# Altium schematic symbol library Schlib2.SchLib: 49 symbols
Pins are listed as number, name and electrical type; pins without a type are passive.

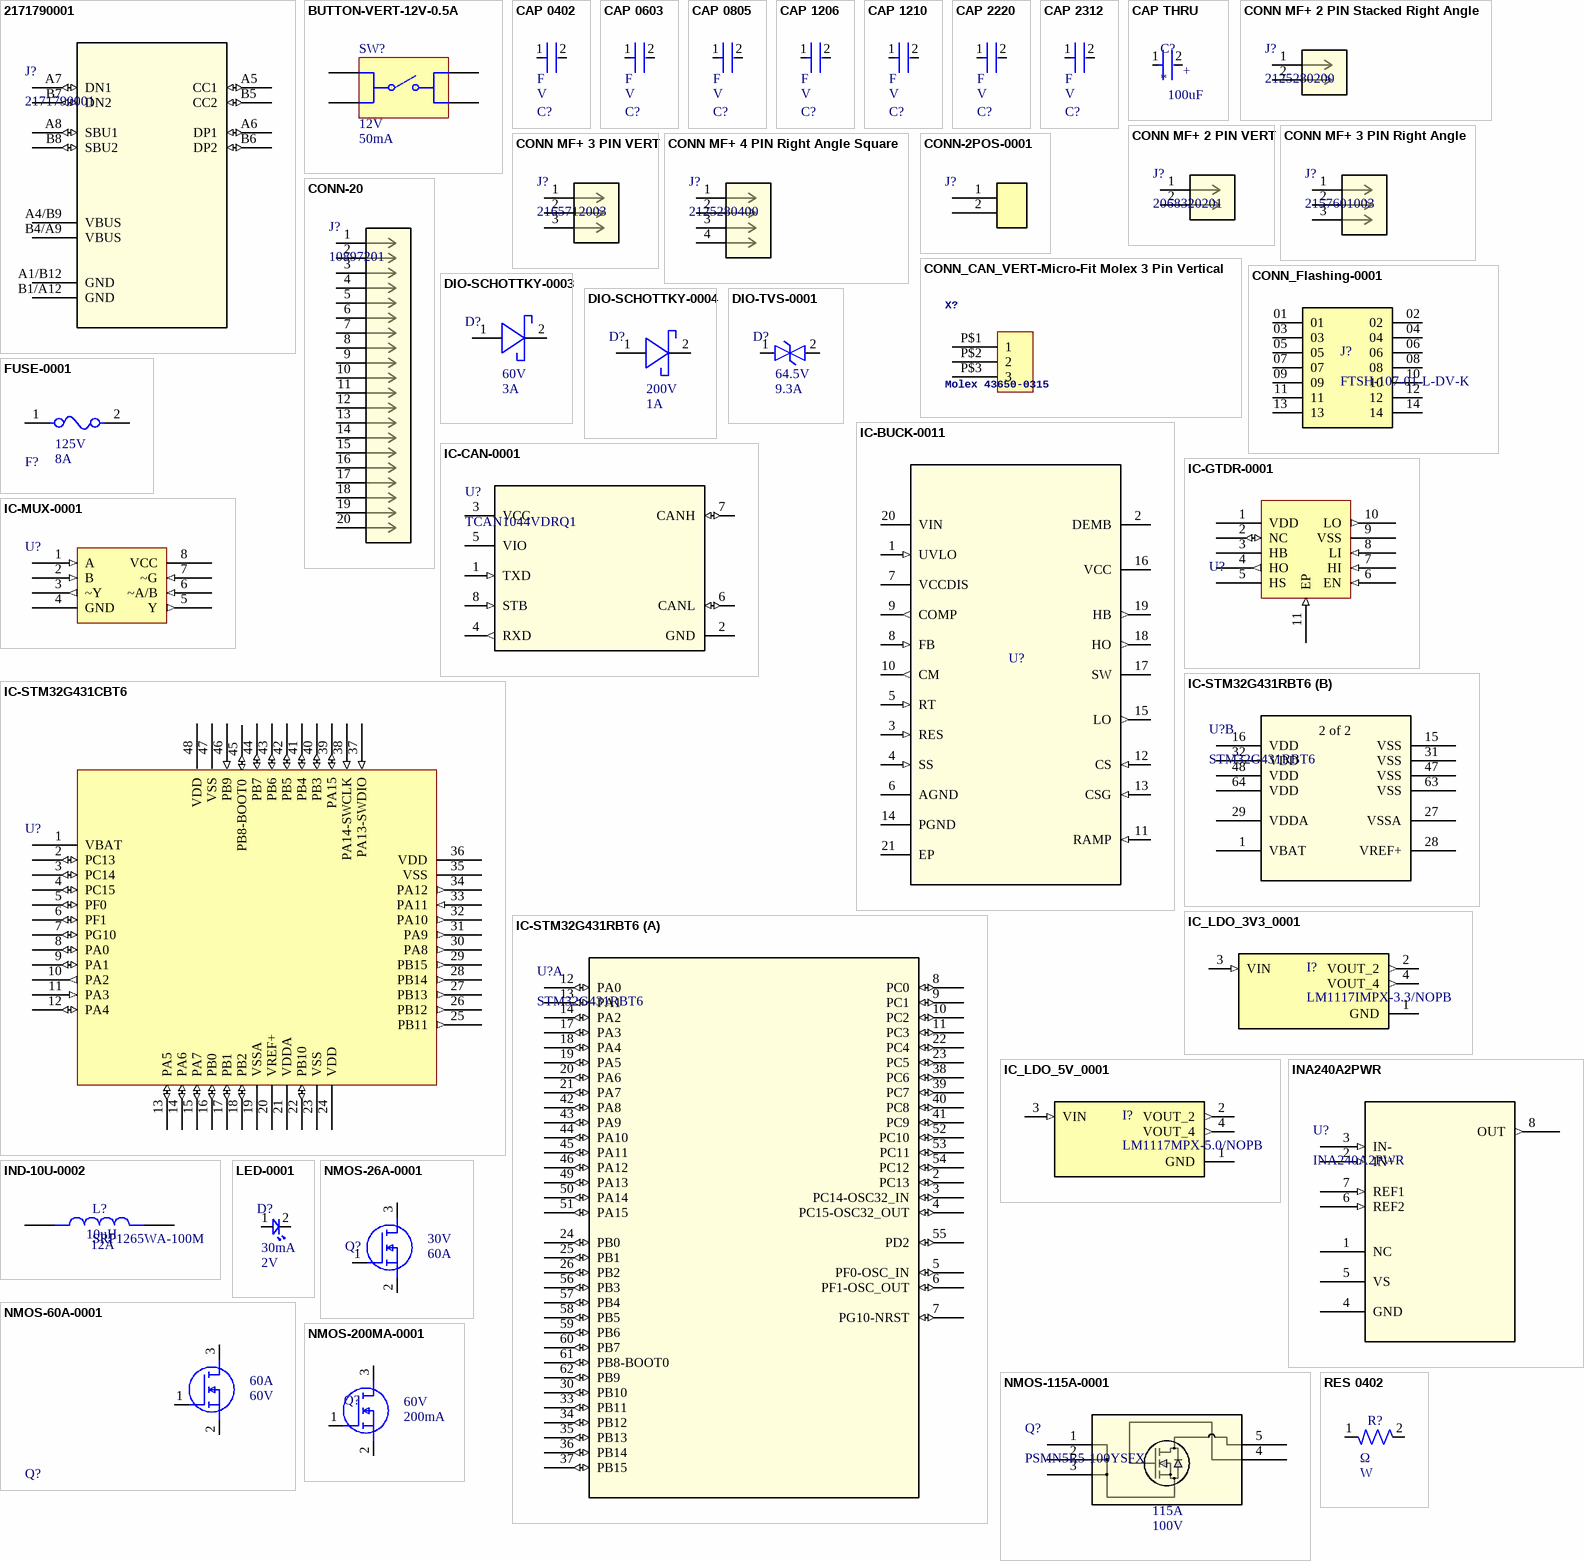
[diagram p0: symbols 2171790001 to RES 0402]

## 2171790001
designator J?
Universal Serial Bus (USB) Shielded I/O Receptacle, Type C, Right-Angle, Top Mount, Surface Mount, Single Row, 16 Circuits, Gold (Au) Plating; Manufacturer_Name: Molex Connector Corporation; Copyright: Copyright (C) 2025 Ultra Librarian. All rights reserved.; Manufacturer_Part_Number: 2171790001; RefDes: RefDes; Type: Type
footprint 2171790001_MOL
pins: A1/B12 GND (power), A4/B9 VBUS (power), A5 CC1 (io), A6 DP1 (io), A7 DN1 (io), A8 SBU1 (io), B1/A12 GND (power), B4/A9 VBUS (power), B5 CC2 (io), B6 DP2 (io), B7 DN2 (io), B8 SBU2 (io)

## BUTTON-VERT-12V-0.5A
designator SW?, comment Rated Current: 50mA  Rated Voltage (DC): 12V  (hidden comment: 430182095816)
WS-TASV SMT Tact Switch, 6mm x 6mm, 160gf, SPST-NO, 12V, 50mA; Manufacturer: Wurth Elektronik; Washable: No; Manufacturer Part Number: 430182095816; Category: Tact Switch; Match Code: WS-TASV; ComponentLink1Description: Website Link; ComponentLink1URL: https://www.we-online.com/redexpert/article/430182095816?ad; ComponentLink2Description: Datasheet Link; ComponentLink2URL: https://www.we-online.com/redexpert/spec/430182095816?ad; Mount: Surface Mount; Min Operating Temperature: -40°C; Max Operating Temperature: 85°C; Packaging: Tape and Reel; Length: 6mm; Width: 6mm; Height: 9.5mm; Circuit: SPST-NO; Contact Material: Stainless Steel; Contact Plating: Silver; Operation Force: 160gf; Terminal Material: Copper Alloy; Terminal Plating: Silver
footprint 430182095816
pins: A1, A2, B1, B2

## CAP 0402
designator C?  Voltage Rating: V  Capacitance: F  (hidden comment: *)
footprint CAP-0402
pins: 1, 2

## CAP 0603
designator C?  Voltage Rating: V  Capacitance: F  (hidden comment: *)
footprint CAP-0603
pins: 1, 2

## CAP 0805
designator C?  Voltage Rating: V  Capacitance: F  (hidden comment: *)
footprint CAP-0805
pins: 1, 2

## CAP 1206
designator C?  Voltage Rating: V  Capacitance: F  (hidden comment: *)
footprint CAP-1206
pins: 1, 2

## CAP 1210
designator C?  Voltage Rating: V  Capacitance: F  (hidden comment: *)
footprint CAP-1210
pins: 1, 2

## CAP 2220
designator C?  Voltage Rating: V  Capacitance: F  (hidden comment: *)
footprint CAP_2220
pins: 1, 2

## CAP 2312
designator C?  Voltage Rating: V  Capacitance: F  (hidden comment: *)
footprint CAP-2312
pins: 1, 2

## CAP THRU
designator C?  value 100uF
MF: {'manufacturer': u'W\xfcrth Elektronik'}; MP: 860040674004; Package: None; Price: None; Availability: Unavailable
footprint WCAP-ATUL_8X11.5(DXL)
pins: 1, 2
text: +

## CONN MF+ 2 PIN Stacked Right Angle
designator J?, comment 2125280200
Micro-Fit+ Right-Angle Header, Through Hole, 3.00mm Pitch, Dual Row, 2 Circuits, 1.52Âµm Matte Tin (Sn) Plating, Glow-Wire Capable, Black; Manufacturer_Name: Molex; Copyright: Copyright (C) 2026 Ultra Librarian. All rights reserved.; Manufacturer_Part_Number: 2125280200; Datasheet: https://www.molex.com/en-us/products/part-detail-pdf/2125280200?display=pdf; RefDes: RefDes; Type: Type
footprint CONN_2125280000_02_MOL
pins: 1, 2

## CONN MF+ 2 PIN VERT
designator J?, comment 2068320201
Micro-Fit+ Vertical Header, Through Hole, 3.00mm Pitch, Dual Row, 2 Circuits, Tin (Sn) Plating, Glow-Wire Capable, Black, Tray; Manufacturer_Name: Molex Connector Corporation; Copyright: Copyright (C) 2025 Ultra Librarian. All rights reserved.; Manufacturer_Part_Number: 2068320201; RefDes: RefDes; Type: Type
footprint CONN_2068320000-SD_02_MOL
pins: 1, 2

## CONN MF+ 3 PIN Right Angle
designator J?, comment 2157601003
Micro-Fit+ Right-Angle Header, Through Hole, 3.00mm Pitch, Single Row, 3  Circuits, Matte Tin (Sn) Plating, Glow-Wire Capable, Black; Manufacturer_Name: Molex; Copyright: Copyright (C) 2026 Ultra Librarian. All rights reserved.; Manufacturer_Part_Number: 2157601003; Datasheet: https://www.molex.com/en-us/products/part-detail-pdf/2157601003?display=pdf; RefDes: RefDes; Type: Type
footprint CONN_2157600003-SD_03_PEG_MOL
pins: 1, 2, 3

## CONN MF+ 3 PIN VERT
designator J?, comment 2165712003
Micro-Fit+ Vertical Header, Through Hole, 3.00mm Pitch, Single Row, 3 Circuits, 0.38Âµm Gold (Au) Plating, Glow-Wire Capable, Black; Manufacturer_Name: Molex Connector Corporation; Copyright: Copyright (C) 2026 Ultra Librarian. All rights reserved.; Manufacturer_Part_Number: 2165712003; RefDes: RefDes; Type: Type
footprint CONN_2165710003-SD_03_MOL
pins: 1, 2, 3

## CONN MF+ 4 PIN Right Angle Square
designator J?, comment 2125280400
Micro-Fit+ Right-Angle Header, Through Hole, 3.00mm Pitch, Dual Row, 4 Circuits, 1.52Âµm Matte Tin (Sn) Plating, Glow-Wire Capable, Black; Manufacturer_Name: Molex Connector Corporation; Copyright: Copyright (C) 2026 Ultra Librarian. All rights reserved.; Manufacturer_Part_Number: 2125280400; RefDes: RefDes; Type: Type
footprint CONN_2125280000_04_MOL
pins: 1, 2, 3, 4

## CONN-2POS-0001
designator J?, comment 0430450212  (value not drawn)
CONN HEADER VERT 2POS; ComponentLink1Description: Datasheet; ComponentLink1URL: https://tools.molex.com/pdm_docs/ps/PS-43045.pdf
footprint CONN-2POS-0001
pins: 1 7, 2 8

## CONN-20
designator J?, comment 10897201
2.54mm Pitch C-Grid Breakaway Header, Dual Row, Vertical, High Temperature, 20 Circuits, Tin (Sn) Plating, 2.72mm PC Tail Length; Manufacturer_Name: Molex Connector Corporation; Copyright: Copyright (C) 2025 Ultra Librarian. All rights reserved.; Manufacturer_Part_Number: 10897201; Datasheet: https://www.molex.com/en-us/products/part-detail-pdf/10897201?display=pdf; RefDes: RefDes; Type: Type
footprint CONN20_0010897201_MOL
pins: 1, 2, 3, 4, 5, 6, 7, 8, 9, 10, 11, 12, 13, 14, 15, 16, 17, 18, 19, 20

## CONN_CAN_VERT-Micro-Fit Molex 3 Pin Vertical
designator X?, comment Molex 43650-0315
GateName_1: G$1; SymbolName_1: HEADER_POS3; DeviceSetName: HEADER_POS3_?; DeviceName: 43650-0315; LibraryName: con-molex-micro-fit-3_0_2; Package: 43650-0315
footprint 43650-0315
pins: P$1 1, P$2 2, P$3 3

## CONN_Flashing-0001
designator J?, comment FTSH-107-01-L-DV-K
Connector Header Surface Mount 14 position 0.050" (1.27mm); MF: Samtec; Value: *; Price: None; Package: None; Availability: Unavailable; MP: FTSH-107-01-L-DV-K; ComponentLink1Description: Datasheet; ComponentLink1URL: https://mm.digikey.com/Volume0/opasdata/d220001/medias/docus/6209/ftsh-1xx-xx-xxx-dv-xxx-xxx-x-xx-mkt.pdf
footprint SAMTEC_FTSH-107-01-L-DV-K
pins: 01, 02, 03, 04, 05, 06, 07, 08, 09, 10, 11, 12, 13, 14

## DIO-SCHOTTKY-0003
designator D?, comment Current Rating: 3A  Reverse Voltage: 60V  (hidden comment: PMEG6030EP,115)
DIODE SCHOTTKY 60V 3A SOD128; ComponentLink1Description: Datasheet; ComponentLink1URL: https://assets.nexperia.com/documents/data-sheet/PMEG6030EP.pdf
footprint DIO-SOD128
pins: 1 CATHODE, 2 ANODE

## DIO-SCHOTTKY-0004
designator D?, comment Current Rating: 1A  Reverse Voltage: 200V  (hidden comment: SS1200)
DIODE SCHOTTKY 200V 1A SMA; ComponentLink1Description: Datasheet; ComponentLink1URL: https://www.digikey.com/en/products/detail/mdd/ss1200/15911596
footprint SMA_DIO
pins: 1 CATHODE, 2 ANODE

## DIO-TVS-0001
designator D?, comment Voltage Rating: 64.5V  Current Rating: 9.3A  (hidden comment: SMBJ40CA)
TVS DIODE 40VWM 64.5VC DO214AA; ComponentLink1Description: Datasheet; ComponentLink1URL: https://www.littelfuse.com/media?resourcetype=datasheets&itemid=09a6ae9a-73cb-4ac4-acac-e6dab92ab953&filename=littelfuse_tvs_diode_smbj_datasheet.pdf
footprint DO-214AA (SMBJ)
pins: 1, 2

## FUSE-0001
designator F?, comment Fuse Current: 8A  Voltage Rating: 125V  (hidden comment: 01550900M)
FUSE BLOK CARTRIDGE 125V 10A SMD; ComponentLink2Description: Datasheet; ComponentLink2URL: https://www.littelfuse.com/~/media/electronics/datasheets/fuses/littelfuse_fuse_154_154t_154l_154tl_datasheet.pdf.pdf
footprint FUSE-0001
pins: 1, 2

## IC-BUCK-0011
designator U?, comment LM5117PMHX/NOPB  (value not drawn)
Buck Regulator Positive Output Step-Down DC-DC Controller IC 20-HTSSOP; Manufacturer Part Number: TPS62933ODRLR; Manufacturer: Texas Instruments; Assembled?: no; Type: Buck
footprint IC-20-HTSSOP
pins: 1 UVLO (in), 2 DEMB, 3 RES (in), 4 SS (in), 5 RT (in), 6 AGND (power), 7 VCCDIS, 8 FB (in), 9 COMP (out), 10 CM (out), 11 RAMP (in), 12 CS (in), 13 CSG (in), 14 PGND (power), 15 LO (out), 16 VCC (power), 17 SW (power), 18 HO (out), 19 HB (out), 20 VIN (power), 21 EP

## IC-CAN-0001
designator U?, comment TCAN1044VDRQ1
IC TRANSCEIVER 1/1 8SOIC; ComponentLink1Description: Datasheet; ComponentLink1URL: https://www.ti.com/lit/ds/symlink/tcan1044-q1.pdf?HQS=dis-dk-null-digikeymode-dsf-pf-null-wwe&ts=1728758303289&ref_url=https%253A%252F%252Fwww.ti.com%252Fgeneral%252Fdocs%252Fsuppproductinfo.tsp%253FdistId%253D10%2526gotoUrl%253Dhttps%253A%252F%252Fwww.ti.com%252Flit%252Fgpn%252Ftcan1044-q1
footprint IC-8SOIC
pins: 1 TXD (in), 2 GND (power), 3 VCC (power), 4 RXD (out), 5 VIO (power), 6 CANL (io), 7 CANH (io), 8 STB (in)

## IC-GTDR-0001
designator U?, comment UCC27282DRCR  (value not drawn)
IC GATE DRVR HALF-BRIDGE 10VSON; VCC Max: 16; Package: 10-VSON; ComponentLink1Description: Datasheet; ComponentLink1URL: https://www.ti.com/lit/ds/symlink/ucc27282.pdf?HQS=dis-dk-null-digikeymode-dsf-pf-null-wwe&ts=1728563165008&ref_url=https%253A%252F%252Fwww.ti.com
footprint IC-10VSON
pins: 1 VDD (power), 2 NC (io), 3 HB (power), 4 HO (out), 5 HS (power), 6 EN (in), 7 HI (in), 8 LI (in), 9 VSS (power), 10 LO (out), 11 EP (in)

## IC-MUX-0001
designator U?, comment SN74LVC2G157DCUR  (value not drawn)
Multiplexer 1 x 2:1 8-VSSOP; ComponentLink1Description: Datasheet; ComponentLink1URL: https://www.ti.com/general/docs/suppproductinfo.tsp?distId=10&gotoUrl=https%3A%2F%2Fwww.ti.com%2Flit%2Fgpn%2Fsn74lvc2g157
footprint IC-8VSSOP
pins: 1 A (in), 2 B (in), 3 ~Y (out), 4 GND (power), 5 Y (out), 6 ~A/B (in), 7 ~G (in), 8 VCC (power)

## IC-STM32G431CBT6
designator U?, comment STM32G431CBT6  (value not drawn)
IC MCU 32BIT 128KB FLASH 48LQFP; Package: 48LQFP; ComponentLink1Description: Datasheet; ComponentLink1URL: https://www.st.com/resource/en/datasheet/stm32g431cb.pdf
footprint IC-LQFP48
pins: 1 VBAT (power), 2 PC13 (io), 3 PC14 (io), 4 PC15 (io), 5 PF0 (io), 6 PF1 (io), 7 PG10 (io), 8 PA0 (io), 9 PA1 (io), 10 PA2 (out), 11 PA3 (in), 12 PA4 (io), 13 PA5 (io), 14 PA6 (io), 15 PA7 (io), 16 PB0 (io), 17 PB1 (io), 18 PB2 (io), 19 VSSA (power), 20 VREF+ (power), 21 VDDA (power), 22 PB10 (io), 23 VSS (power), 24 VDD (power), 25 PB11 (out), 26 PB12 (out), 27 PB13 (out), 28 PB14 (out), 29 PB15 (out), 30 PA8 (out), 31 PA9 (out), 32 PA10 (out), 33 PA11 (in), 34 PA12 (out), 35 VSS (power), 36 VDD (power), 37 PA13-SWDIO (in), 38 PA14-SWCLK (in), 39 PA15 (io), 40 PB3 (io), 41 PB4 (io), 42 PB5 (io), 43 PB6 (io), 44 PB7 (io), 45 PB8-BOOT0 (io), 46 PB9 (in), 47 VSS (power), 48 VDD (power)

## IC-STM32G431RBT6
designator U?, comment STM32G431RBT6
Mainstream Arm Cortex-M4 MCU 170 MHz with 128 Kbytes of Flash memory, Math Accelerator, Medium Analog level integration; Manufacturer_Name: STMicroelectronics; Copyright: Copyright (C) 2025 Ultra Librarian. All rights reserved.; Manufacturer_Part_Number: STM32G431RBT6; Datasheet: https://www.st.com/resource/en/datasheet/stm32g431c6.pdf; RefDes: RefDes; Type: Type
footprint LQFP64-10x10mm
part A pins: 2 PC13 (io), 3 PC14-OSC32_IN (io), 4 PC15-OSC32_OUT (io), 5 PF0-OSC_IN (io), 6 PF1-OSC_OUT (io), 7 PG10-NRST (io), 8 PC0 (io), 9 PC1 (io), 10 PC2 (io), 11 PC3 (io), 12 PA0 (io), 13 PA1 (io), 14 PA2 (io), 17 PA3 (io), 18 PA4 (io), 19 PA5 (io), 20 PA6 (io), 21 PA7 (io), 22 PC4 (io), 23 PC5 (io), 24 PB0 (io), 25 PB1 (io), 26 PB2 (io), 30 PB10 (io), 33 PB11 (io), 34 PB12 (io), 35 PB13 (io), 36 PB14 (io), 37 PB15 (io), 38 PC6 (io), 39 PC7 (io), 40 PC8 (io), 41 PC9 (io), 42 PA8 (io), 43 PA9 (io), 44 PA10 (io), 45 PA11 (io), 46 PA12 (io), 49 PA13 (io), 50 PA14 (io), 51 PA15 (io), 52 PC10 (io), 53 PC11 (io), 54 PC12 (io), 55 PD2 (io), 56 PB3 (io), 57 PB4 (io), 58 PB5 (io), 59 PB6 (io), 60 PB7 (io), 61 PB8-BOOT0 (io), 62 PB9 (io)
part B pins: 1 VBAT (power), 15 VSS (power), 16 VDD (power), 27 VSSA (power), 28 VREF+ (power), 29 VDDA (power), 31 VSS (power), 32 VDD (power), 47 VSS (power), 48 VDD (power), 63 VSS (power), 64 VDD (power)
part B text: 2 of 2

## IC_LDO_3V3_0001
designator I?, comment LM1117IMPX-3.3/NOPB
IC REG LIN 3.3V 800MA SOT223-4; ComponentLink1Description: New link; ComponentLink1URL: https://www.ti.com/lit/ds/symlink/lm1117.pdf?HQS=dis-dk-null-digikeymode-dsf-pf-null-wwe&ts=1721700739746
footprint IC-SOT-223-4
pins: 1 GND (power), 2 VOUT_2 (out), 3 VIN (in), 4 VOUT_4 (out)

## IC_LDO_5V_0001
designator I?, comment LM1117MPX-5.0/NOPB
IC REG LINEAR 5V 800MA SOT223-4; ComponentLink1Description: Datasheet; ComponentLink1URL: https://www.ti.com/lit/ds/symlink/lm1117.pdf?HQS=dis-dk-null-digikeymode-dsf-pf-null-wwe&ts=1721700739746
footprint IC-SOT-223-4
pins: 1 GND (power), 2 VOUT_2 (out), 3 VIN (in), 4 VOUT_4 (out)

## INA240A2PWR
designator U?
-4 to 80V, bidirectional, ultra-precise current sense amplifier with enhanced PWM rejection 8-TSSOP -40 to 125; Manufacturer_Name: Texas Instruments; Copyright: Copyright (C) 2026 Ultra Librarian. All rights reserved.; Manufacturer_Part_Number: INA240A2PWR; RefDes: RefDes; Type: Type
footprint PW0008A_N_TEX
pins: 1 NC, 2 IN+ (in), 3 IN- (in), 4 GND (power), 5 VS (power), 6 REF2 (in), 7 REF1 (in), 8 OUT (out)

## IND-10U-0002
designator L?, comment SRP1265WA-100M  value 10uH  Current: 12A
10 µH Shielded Inductor 12 A 16.5mOhm Max Nonstandard; MP: SRP1265A-100M; Package: None; Price: None; Availability: Unavailable
footprint IND_SRP1265_BRN (Footprint not found)
pins: 1, 2

## LED-0001
designator D?, comment Forward Current: 30mA  Forward Voltage: 2V  (hidden comment: BL-HKC36G-AV-TRB)
LED YELLOW CLEAR 0603 SMD; ComponentLink1Description: Datasheet; ComponentLink1URL: https://www.americanbrightled.com/pdffiles/led-components/smt/BL-HKC36G-AV-TRB.pdf
footprint LED-0603
pins: 1, 2

## NMOS-26A-0001
designator Q?, comment Voltage: 30V  Continuous Current: 60A  (hidden comment: CSD17575Q3)
MOSFET N-CH 30V 60A 8VSON; ComponentLink1Description: Datasheet; ComponentLink1URL: https://www.ti.com/lit/ds/symlink/csd17575q3.pdf?ts=1728565072242&ref_url=https%253A%252F%252Fwww.mouser.co.uk%252F
footprint IC-8VSONCLIP
pins: 1 G, 2 S, 3 D

## NMOS-60A-0001
designator Q?, comment Voltage: 60V  Continuous Current: 60A  (hidden comment: CSD18543Q3AT)
MOSFET N-CH 60V 12A/60A 8VSON; ComponentLink2Description: Datasheet; ComponentLink2URL: http://www.ti.com/lit/ds/symlink/csd18543q3a.pdf
footprint IC-8VSONCLIP
pins: 1 G, 2 S, 3 D

## NMOS-115A-0001
designator Q?, comment PSMN5R5-100YSFX  Vdss: 100V  Drain Current: 115A
N-Channel 100 V 115A (Tc) 238W (Tc) Surface Mount LFPAK56, Power-SO8; Manufacturer_Part_Number: TPH2R506PL; Vgs (max): 20V; Vgs: 4V @ 1mA; RefDes: RefDes
footprint LFPAK_SOT669_NEX
pins: 1, 2, 3, 4, 5

## NMOS-200MA-0001
designator Q?, comment Continuous Current: 200mA  Voltage: 60V  (hidden comment: T2N7002AK,LM)
MOSFET N-CH 60V 200MA SOT23; ComponentLink1Description: Datasheet; ComponentLink1URL: https://toshiba.semicon-storage.com/info/T2N7002AK_datasheet_en_20150401.pdf?did=29712&prodName=T2N7002AK
footprint IC-SOT23-3
pins: 1 G, 2 S, 3 D

## RES 0402
designator R?  Wattage: W  Resistance: Ω  (hidden comment: *)
footprint RES-0402
pins: 1, 2

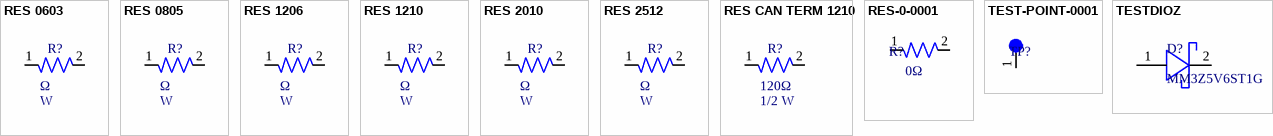
[diagram p1: symbols RES 0603 to TESTDIOZ]

## RES 0603
designator R?  Wattage: W  Resistance: Ω  (hidden comment: *)
footprint RES-0603
pins: 1, 2

## RES 0805
designator R?  Wattage: W  Resistance: Ω  (hidden comment: *)
footprint RES-0805
pins: 1, 2

## RES 1206
designator R?  Wattage: W  Resistance: Ω  (hidden comment: *)
footprint RES-1206
pins: 1, 2

## RES 1210
designator R?  Wattage: W  Resistance: Ω  (hidden comment: *)
footprint RES-1210 (Chip Resistor, 2-Leads, Body 3.10x2.60mm, IPC High Density)
pins: 1, 2

## RES 2010
designator R?  Wattage: W  Resistance: Ω  (hidden comment: *)
footprint RES-2010
pins: 1, 2

## RES 2512
designator R?  Wattage: W  Resistance: Ω  (hidden comment: *)
footprint RES-2512
pins: 1, 2

## RES CAN TERM 1210
designator R?, comment Wattage: 1/2 W  Resistance: 120Ω  (hidden comment: RC1210FR-07120RL)
footprint RES-1210 (Chip Resistor, 2-Leads, Body 3.10x2.60mm, IPC High Density)
pins: 1, 2

## RES-0-0001
designator R?, comment Resistance: 0Ω  (hidden comment: CRF2010-J/-000ELF)
0 Ohms Jumper Chip Resistor 2010 (5025 Metric) Automotive AEC-Q200 Metal Element; Tolerance: 1%; Size: 0402; ComponentLink1Description: Datasheet; ComponentLink1URL: https://www.yageo.com/upload/media/product/products/datasheet/rchip/PYu-RC_Group_51_RoHS_L_12.pdf
footprint RES-2010
pins: 1, 2
1 alternate drawing of the same symbol

## TEST-POINT-0001
designator TP?, comment 5003  (value not drawn)
Oranange PC Test Point, Miniature Phoisphor Bronze Silver Plating Through Hole Mounting Type
footprint TEST-POINT-0001 (2024 miniature test point)
pins: 1 0

## TESTDIOZ
designator D?, comment MM3Z5V6ST1G
footprint DIO_MM3Z3V0T1G - duplicate
pins: 1 5, 2 6